# Altium schematic symbol library rgb_led_schematic.SchLib: 1 symbol
Pins are listed as number, name and electrical type; pins without a type are passive.

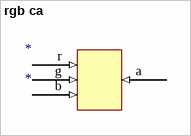
[diagram p0: symbol rgb ca]

## rgb ca
designator *
footprint RGB CA; pin to pad anode>a
pins: a (in), b (in), g (in), r (in)